# Altium footprint library Capacitors.PcbLib: 106 footprints (part 4 of 7)
Each footprint in its own frame and in the unit in brackets; x right, y up, seen from the top. Pads: shape width x height; smd on the part's side, far side on the other; paste and mask are expansions set on the pad; w line width, h text height; cw(c..) or ccw(c..) is an arc to the next point about the centre after c.
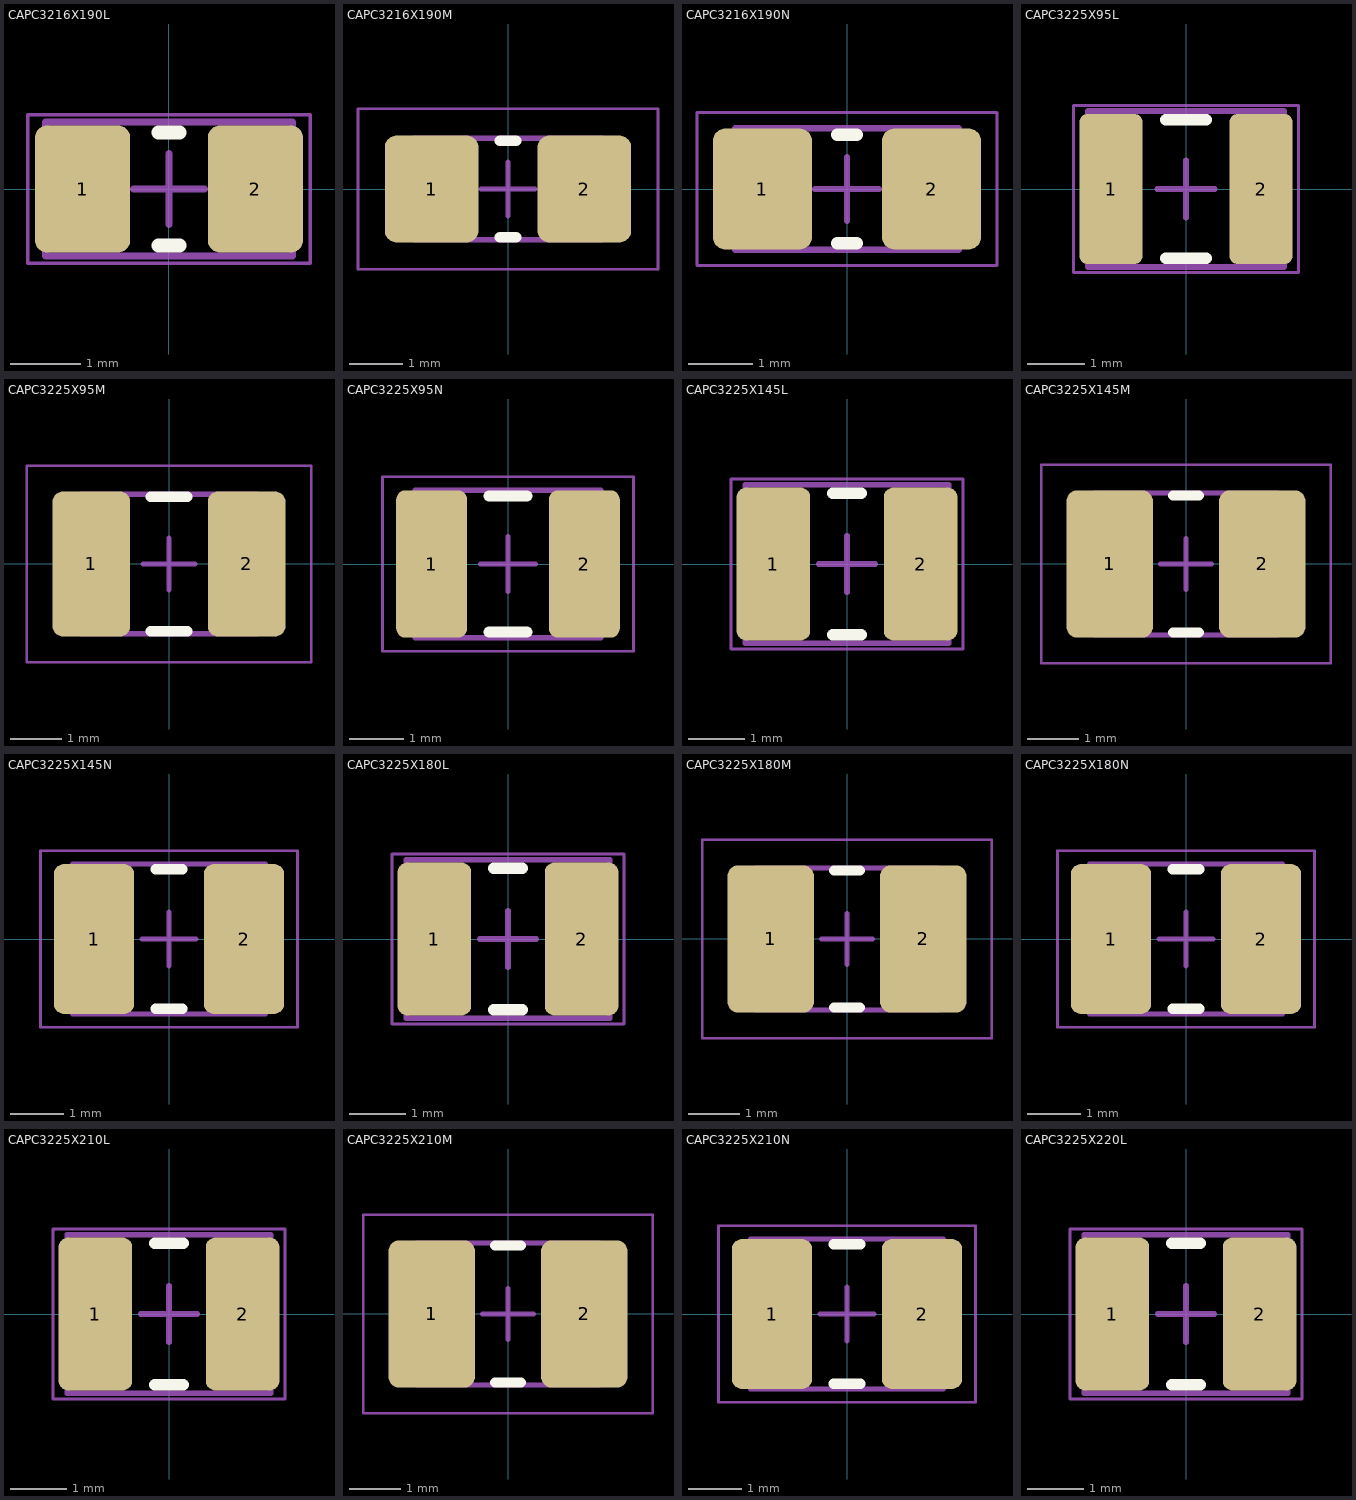
[diagram p3: the footprints below, top view; thin cyan lines are the x and y axes]

## CAPC3216X190L [mm] "Chip Capacitor, EIA 1206, Metric 3216, Body 3.20x1.60mm, IPC High Density"
height 1.9
pads (2):
  rrect25% 1.35x1.8 smd paste+0 mask+0.05: 1(-1.225,0) 2(1.225,0)
Top Overlay:
  lines w0.2: -0.15,-0.8 0.15,-0.8 ; -0.15,0.8 0.15,0.8
Top Component Outline:
  lines w0.1: -1.75,-0.95 -1.75,0.95 1.75,0.95 1.75,-0.95 -1.75,-0.95
Top Courtyard:
  lines w0.05: -2,-1.05 -2,1.05 2,1.05 2,-1.05 -2,-1.05
Top Component Center:
  lines w0.1: -0.5,0 0.5,0 ; 0,-0.5 0,0.5
Top Designator:
  text ".Designator" at -4.04,-0.476 h2
Top Assembly:
  lines w0.1: -1.75,-0.95 -1.75,0.95 1.75,0.95 1.75,-0.95 -1.75,-0.95
  text ".Designator" at -4.04,-0.476 h2
3D body "CAPC3216X190N.step": height 1.9, standoff 0, extent -1.75,-0.95 1.75,0.95

## CAPC3216X190M [mm] "Chip Capacitor, EIA 1206, Metric 3216, Body 3.20x1.60mm, IPC Low Density"
height 1.9
pads (2):
  rrect25% 1.75x2 smd paste+0 mask+0.05: 1(-1.425,0) 2(1.425,0)
Top Overlay:
  lines w0.2: -0.15,-0.9 0.15,-0.9 ; -0.15,0.9 0.15,0.9
Top Component Outline:
  lines w0.1: -1.75,-0.95 1.75,-0.95 1.75,0.95 -1.75,0.95 -1.75,-0.95
Top Courtyard:
  lines w0.05: -2.8,-1.5 2.8,-1.5 2.8,1.5 -2.8,1.5 -2.8,-1.5
Top Component Center:
  lines w0.1: -0.5,0 0.5,0 ; 0,-0.5 0,0.5
Top Designator:
  text ".Designator" at -4.04,-0.476 h2
Top Assembly:
  lines w0.1: -1.75,-0.95 1.75,-0.95 1.75,0.95 -1.75,0.95 -1.75,-0.95
  text ".Designator" at -4.04,-0.476 h2
3D body "CAPC3216X190N.step": height 1.9, standoff 0, extent -1.75,-0.95 1.75,0.95

## CAPC3216X190N [mm] "Chip Capacitor, EIA 1206, Metric 3216, Body 3.20x1.60mm, IPC Medium Density"
height 1.9
pads (2):
  rrect25% 1.55x1.9 smd paste+0 mask+0.05: 1(-1.325,0) 2(1.325,0)
Top Overlay:
  lines w0.2: -0.15,-0.85 0.15,-0.85 ; -0.15,0.85 0.15,0.85
Top Component Outline:
  lines w0.1: -1.75,-0.95 1.75,-0.95 1.75,0.95 -1.75,0.95 -1.75,-0.95
Top Courtyard:
  lines w0.05: -2.35,-1.2 2.35,-1.2 2.35,1.2 -2.35,1.2 -2.35,-1.2
Top Component Center:
  lines w0.1: -0.5,0 0.5,0 ; 0,-0.5 0,0.5
Top Designator:
  text ".Designator" at -4.04,-0.476 h2
Top Assembly:
  lines w0.1: -1.75,-0.95 1.75,-0.95 1.75,0.95 -1.75,0.95 -1.75,-0.95
  text ".Designator" at -4.04,-0.476 h2
3D body "CAPC3216X190N.step": height 1.9, standoff 0, extent -1.75,-0.95 1.75,0.95

## CAPC3225X95L [mm] "Chip Capacitor, EIA 1210, Metric 3225, Body 3.20x2.50mm, IPC High Density"
height 0.95
pads (2):
  rrect25% 1.1x2.6 smd paste+0 mask+0.05: 1(-1.3,0) 2(1.3,0)
Top Overlay:
  lines w0.2: -0.35,-1.2 0.35,-1.2 ; -0.35,1.2 0.35,1.2
Top Component Outline:
  lines w0.1: -1.7,-1.35 -1.7,1.35 1.7,1.35 1.7,-1.35 -1.7,-1.35
Top Courtyard:
  lines w0.05: -1.95,-1.45 1.95,-1.45 1.95,1.45 -1.95,1.45 -1.95,-1.45
Top Component Center:
  lines w0.1: -0.5,0 0.5,0 ; 0,-0.5 0,0.5
Top Designator:
  text ".Designator" at -4.04,-0.476 h2
Top Assembly:
  lines w0.1: -1.7,-1.35 1.7,-1.35 1.7,1.35 -1.7,1.35 -1.7,-1.35
  text ".Designator" at -4.04,-0.476 h2
3D body "CAPC3225X95N.step": height 0.95, standoff 0, extent -1.7,-1.35 1.7,1.35

## CAPC3225X95M [mm] "Chip Capacitor, EIA 1210, Metric 3225, Body 3.20x2.50mm, IPC Low Density"
height 0.95
pads (2):
  rrect25% 1.5x2.8 smd paste+0 mask+0.05: 1(-1.5,0) 2(1.5,0)
Top Overlay:
  lines w0.2: -0.35,-1.3 0.35,-1.3 ; -0.35,1.3 0.35,1.3
Top Component Outline:
  lines w0.1: -1.7,-1.35 -1.7,1.35 1.7,1.35 1.7,-1.35 -1.7,-1.35
Top Courtyard:
  lines w0.05: -2.75,-1.9 -2.75,1.9 2.75,1.9 2.75,-1.9 -2.75,-1.9
Top Component Center:
  lines w0.1: -0.5,0 0.5,0 ; 0,-0.5 0,0.5
Top Designator:
  text ".Designator" at -4.04,-0.476 h2
Top Assembly:
  lines w0.1: -1.7,-1.35 -1.7,1.35 1.7,1.35 1.7,-1.35 -1.7,-1.35
  text ".Designator" at -4.04,-0.476 h2
3D body "CAPC3225X95N.step": height 0.95, standoff 0, extent -1.7,-1.35 1.7,1.35

## CAPC3225X95N [mm] "Chip Capacitor, EIA 1210, Metric 3225, Body 3.20x2.50mm, IPC Medium Density"
height 0.95
pads (2):
  rrect25% 1.3x2.7 smd paste+0 mask+0.05: 1(-1.4,0) 2(1.4,0)
Top Overlay:
  lines w0.2: -0.35,-1.25 0.35,-1.25 ; -0.35,1.25 0.35,1.25
Top Component Outline:
  lines w0.1: -1.7,-1.35 -1.7,1.35 1.7,1.35 1.7,-1.35 -1.7,-1.35
Top Courtyard:
  lines w0.05: -2.3,-1.6 -2.3,1.6 2.3,1.6 2.3,-1.6 -2.3,-1.6
Top Component Center:
  lines w0.1: -0.5,0 0.5,0 ; 0,-0.5 0,0.5
Top Designator:
  text ".Designator" at -4.04,-0.476 h2
Top Assembly:
  lines w0.1: -1.7,-1.35 -1.7,1.35 1.7,1.35 1.7,-1.35 -1.7,-1.35
  text ".Designator" at -4.04,-0.476 h2
3D body "CAPC3225X95N.step": height 0.95, standoff 0, extent -1.7,-1.35 1.7,1.35

## CAPC3225X145L [mm] "Chip Capacitor, EIA 1210, Metric 3225, Body 3.20x2.50mm, IPC High Density"
height 1.45
pads (2):
  rrect25% 1.3x2.7 smd paste+0 mask+0.05: 1(-1.3,0) 2(1.3,0)
Top Overlay:
  lines w0.2: -0.25,-1.25 0.25,-1.25 ; -0.25,1.25 0.25,1.25
Top Component Outline:
  lines w0.1: -1.8,-1.4 1.8,-1.4 1.8,1.4 -1.8,1.4 -1.8,-1.4
Top Courtyard:
  lines w0.05: -2.05,-1.5 -2.05,1.5 2.05,1.5 2.05,-1.5 -2.05,-1.5
Top Component Center:
  lines w0.1: -0.5,0 0.5,0 ; 0,-0.5 0,0.5
Top Designator:
  text ".Designator" at -4.04,-0.476 h2
Top Assembly:
  lines w0.1: -1.8,-1.4 -1.8,1.4 1.8,1.4 1.8,-1.4 -1.8,-1.4
  text ".Designator" at -4.04,-0.476 h2
3D body "CAPC3225X145N.step": height 1.45, standoff 0, extent -1.8,-1.4 1.8,1.4

## CAPC3225X145M [mm] "Chip Capacitor, EIA 1210, Metric 3225, Body 3.20x2.50mm, IPC Low Density"
height 1.45
pads (2):
  rrect25% 1.7x2.9 smd paste+0 mask+0.05: 1(-1.5,0) 2(1.5,0)
Top Overlay:
  lines w0.2: -0.25,-1.35 0.25,-1.35 ; -0.25,1.35 0.25,1.35
Top Component Outline:
  lines w0.1: -1.8,-1.4 -1.8,1.4 1.8,1.4 1.8,-1.4 -1.8,-1.4
Top Courtyard:
  lines w0.05: -2.85,-1.95 -2.85,1.95 2.85,1.95 2.85,-1.95 -2.85,-1.95
Top Component Center:
  lines w0.1: -0.5,0 0.5,0 ; 0,-0.5 0,0.5
Top Designator:
  text ".Designator" at -4.04,-0.476 h2
Top Assembly:
  lines w0.1: -1.8,-1.4 -1.8,1.4 1.8,1.4 1.8,-1.4 -1.8,-1.4
  text ".Designator" at -4.04,-0.476 h2
3D body "CAPC3225X145N.step": height 1.45, standoff 0, extent -1.8,-1.4 1.8,1.4

## CAPC3225X145N [mm] "Chip Capacitor, EIA 1210, Metric 3225, Body 3.20x2.50mm, IPC Medium Density"
height 1.45
pads (2):
  rrect25% 1.5x2.8 smd paste+0 mask+0.05: 1(-1.4,0) 2(1.4,0)
Top Overlay:
  lines w0.2: -0.25,-1.3 0.25,-1.3 ; -0.25,1.3 0.25,1.3
Top Component Outline:
  lines w0.1: -1.8,-1.4 1.8,-1.4 1.8,1.4 -1.8,1.4 -1.8,-1.4
Top Courtyard:
  lines w0.05: -2.4,-1.65 2.4,-1.65 2.4,1.65 -2.4,1.65 -2.4,-1.65
Top Component Center:
  lines w0.1: -0.5,0 0.5,0 ; 0,-0.5 0,0.5
Top Designator:
  text ".Designator" at -4.04,-0.476 h2
Top Assembly:
  lines w0.1: -1.8,-1.4 1.8,-1.4 1.8,1.4 -1.8,1.4 -1.8,-1.4
  text ".Designator" at -4.04,-0.476 h2
3D body "CAPC3225X145N.step": height 1.45, standoff 0, extent -1.8,-1.4 1.8,1.4

## CAPC3225X180L [mm] "Chip Capacitor, EIA 1210, Metric 3225, Body 3.20x2.50mm, IPC High Density"
height 1.8
pads (2):
  rrect25% 1.3x2.7 smd paste+0 mask+0.05: 1(-1.3,0) 2(1.3,0)
Top Overlay:
  lines w0.2: -0.25,-1.25 0.25,-1.25 ; -0.25,1.25 0.25,1.25
Top Component Outline:
  lines w0.1: -1.8,-1.4 -1.8,1.4 1.8,1.4 1.8,-1.4 -1.8,-1.4
Top Courtyard:
  lines w0.05: -2.05,-1.5 2.05,-1.5 2.05,1.5 -2.05,1.5 -2.05,-1.5
Top Component Center:
  lines w0.1: -0.5,0 0.5,0 ; 0,-0.5 0,0.5
Top Designator:
  text ".Designator" at -4.04,-0.476 h2
Top Assembly:
  lines w0.1: -1.8,-1.4 1.8,-1.4 1.8,1.4 -1.8,1.4 -1.8,-1.4
  text ".Designator" at -4.04,-0.476 h2
3D body "CAPC3225X180N.step": height 1.8, standoff 0, extent -1.8,-1.4 1.8,1.4

## CAPC3225X180M [mm] "Chip Capacitor, EIA 1210, Metric 3225, Body 3.20x2.50mm, IPC Low Density"
height 1.8
pads (2):
  rrect25% 1.7x2.9 smd paste+0 mask+0.05: 1(-1.5,0) 2(1.5,0)
Top Overlay:
  lines w0.2: -0.25,-1.35 0.25,-1.35 ; -0.25,1.35 0.25,1.35
Top Component Outline:
  lines w0.1: -1.8,-1.4 -1.8,1.4 1.8,1.4 1.8,-1.4 -1.8,-1.4
Top Courtyard:
  lines w0.05: -2.85,-1.95 -2.85,1.95 2.85,1.95 2.85,-1.95 -2.85,-1.95
Top Component Center:
  lines w0.1: -0.5,0 0.5,0 ; 0,-0.5 0,0.5
Top Designator:
  text ".Designator" at -4.04,-0.476 h2
Top Assembly:
  lines w0.1: -1.8,-1.4 -1.8,1.4 1.8,1.4 1.8,-1.4 -1.8,-1.4
  text ".Designator" at -4.04,-0.476 h2
3D body "CAPC3225X180N.step": height 1.8, standoff 0, extent -1.8,-1.4 1.8,1.4

## CAPC3225X180N [mm] "Chip Capacitor, EIA 1210, Metric 3225, Body 3.20x2.50mm, IPC Medium Density"
height 1.8
pads (2):
  rrect25% 1.5x2.8 smd paste+0 mask+0.05: 1(-1.4,0) 2(1.4,0)
Top Overlay:
  lines w0.2: -0.25,-1.3 0.25,-1.3 ; -0.25,1.3 0.25,1.3
Top Component Outline:
  lines w0.1: -1.8,-1.4 -1.8,1.4 1.8,1.4 1.8,-1.4 -1.8,-1.4
Top Courtyard:
  lines w0.05: -2.4,-1.65 -2.4,1.65 2.4,1.65 2.4,-1.65 -2.4,-1.65
Top Component Center:
  lines w0.1: -0.5,0 0.5,0 ; 0,-0.5 0,0.5
Top Designator:
  text ".Designator" at -4.04,-0.476 h2
Top Assembly:
  lines w0.1: -1.8,-1.4 -1.8,1.4 1.8,1.4 1.8,-1.4 -1.8,-1.4
  text ".Designator" at -4.04,-0.476 h2
3D body "CAPC3225X180N.step": height 1.8, standoff 0, extent -1.8,-1.4 1.8,1.4

## CAPC3225X210L [mm] "Chip Capacitor, EIA 1210, Metric 3225, Body 3.20x2.50mm, IPC High Density"
height 2.1
pads (2):
  rrect25% 1.3x2.7 smd paste+0 mask+0.05: 1(-1.3,0) 2(1.3,0)
Top Overlay:
  lines w0.2: -0.25,-1.25 0.25,-1.25 ; -0.25,1.25 0.25,1.25
Top Component Outline:
  lines w0.1: -1.8,-1.4 -1.8,1.4 1.8,1.4 1.8,-1.4 -1.8,-1.4
Top Courtyard:
  lines w0.05: -2.05,-1.5 -2.05,1.5 2.05,1.5 2.05,-1.5 -2.05,-1.5
Top Component Center:
  lines w0.1: -0.5,0 0.5,0 ; 0,-0.5 0,0.5
Top Designator:
  text ".Designator" at -4.04,-0.476 h2
Top Assembly:
  lines w0.1: -1.8,-1.4 -1.8,1.4 1.8,1.4 1.8,-1.4 -1.8,-1.4
  text ".Designator" at -4.04,-0.476 h2
3D body "CAPC3225X210N.step": height 2.1, standoff 0, extent -1.8,-1.4 1.8,1.4

## CAPC3225X210M [mm] "Chip Capacitor, EIA 1210, Metric 3225, Body 3.20x2.50mm, IPC Low Density"
height 2.1
pads (2):
  rrect25% 1.7x2.9 smd paste+0 mask+0.05: 1(-1.5,0) 2(1.5,0)
Top Overlay:
  lines w0.2: -0.25,-1.35 0.25,-1.35 ; -0.25,1.35 0.25,1.35
Top Component Outline:
  lines w0.1: -1.8,-1.4 -1.8,1.4 1.8,1.4 1.8,-1.4 -1.8,-1.4
Top Courtyard:
  lines w0.05: -2.85,-1.95 2.85,-1.95 2.85,1.95 -2.85,1.95 -2.85,-1.95
Top Component Center:
  lines w0.1: -0.5,0 0.5,0 ; 0,-0.5 0,0.5
Top Designator:
  text ".Designator" at -4.04,-0.476 h2
Top Assembly:
  lines w0.1: -1.8,-1.4 1.8,-1.4 1.8,1.4 -1.8,1.4 -1.8,-1.4
  text ".Designator" at -4.04,-0.476 h2
3D body "CAPC3225X210N.step": height 2.1, standoff 0, extent -1.8,-1.4 1.8,1.4

## CAPC3225X210N [mm] "Chip Capacitor, EIA 1210, Metric 3225, Body 3.20x2.50mm, IPC Medium Density"
height 2.1
pads (2):
  rrect25% 1.5x2.8 smd paste+0 mask+0.05: 1(-1.4,0) 2(1.4,0)
Top Overlay:
  lines w0.2: -0.25,-1.3 0.25,-1.3 ; -0.25,1.3 0.25,1.3
Top Component Outline:
  lines w0.1: -1.8,-1.4 -1.8,1.4 1.8,1.4 1.8,-1.4 -1.8,-1.4
Top Courtyard:
  lines w0.05: -2.4,-1.65 -2.4,1.65 2.4,1.65 2.4,-1.65 -2.4,-1.65
Top Component Center:
  lines w0.1: -0.5,0 0.5,0 ; 0,-0.5 0,0.5
Top Designator:
  text ".Designator" at -4.04,-0.476 h2
Top Assembly:
  lines w0.1: -1.8,-1.4 -1.8,1.4 1.8,1.4 1.8,-1.4 -1.8,-1.4
  text ".Designator" at -4.04,-0.476 h2
3D body "CAPC3225X210N.step": height 2.1, standoff 0, extent -1.8,-1.4 1.8,1.4

## CAPC3225X220L [mm] "Chip Capacitor, EIA 1210, Metric 3225, Body 3.20x2.50mm, IPC High Density"
height 2.2
pads (2):
  rrect25% 1.3x2.7 smd paste+0 mask+0.05: 1(-1.3,0) 2(1.3,0)
Top Overlay:
  lines w0.2: -0.25,-1.25 0.25,-1.25 ; -0.25,1.25 0.25,1.25
Top Component Outline:
  lines w0.1: -1.8,-1.4 1.8,-1.4 1.8,1.4 -1.8,1.4 -1.8,-1.4
Top Courtyard:
  lines w0.05: -2.05,-1.5 2.05,-1.5 2.05,1.5 -2.05,1.5 -2.05,-1.5
Top Component Center:
  lines w0.1: -0.5,0 0.5,0 ; 0,-0.5 0,0.5
Top Designator:
  text ".Designator" at -4.04,-0.476 h2
Top Assembly:
  lines w0.1: -1.8,-1.4 1.8,-1.4 1.8,1.4 -1.8,1.4 -1.8,-1.4
  text ".Designator" at -4.04,-0.476 h2
3D body "CAPC3225X220N.step": height 2.2, standoff 0, extent -1.8,-1.4 1.8,1.4